# EAGLE library part CCDN2,5/18-G1P26THR (library Connectors)
CCDN 2,5/18-G1 P26 THR - PCB header Link <https://www.phoenixcontact.com/en-pc/products/printed-circuit-board-connector-ccdn-25-18-g1-p26-thr-1734436>
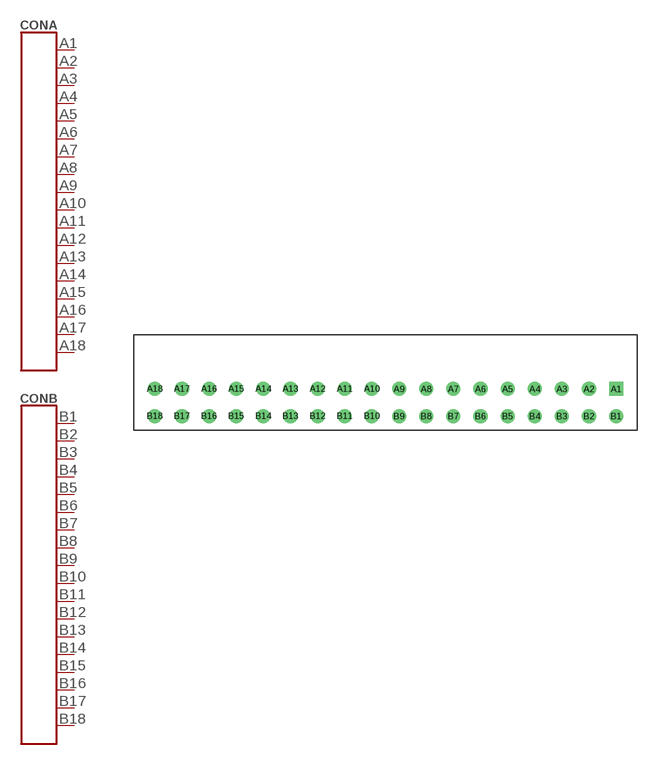
[diagram p36: symbol with the pads of CCDN2.5_18-G1P26THR; footprint CCDN2.5_18-G1P26THR]

Designator prefix CON; gates A=CON-18P B=CON-18P

## CCDN2,5/18-G1P26THR (ALT: WJ2EDGRHB-THR-5.0-2*18Р (36pitch); MANF: Phoenix contact; MANF#: CCDN 2,5/18-G1 P26 THR)  [CCDN2.5_18-G1P26THR]
A1  A:1
A2  A:2
A3  A:3
A4  A:4
A5  A:5
A6  A:6
A7  A:7
A8  A:8
A9  A:9
A10  A:10
A11  A:11
A12  A:12
A13  A:13
A14  A:14
A15  A:15
A16  A:16
A17  A:17
A18  A:18
B1  B:1
B2  B:2
B3  B:3
B4  B:4
B5  B:5
B6  B:6
B7  B:7
B8  B:8
B9  B:9
B10  B:10
B11  B:11
B12  B:12
B13  B:13
B14  B:14
B15  B:15
B16  B:16
B17  B:17
B18  B:18

## Footprint CCDN2.5_18-G1P26THR (pad centres in mm)
3D model <https://www.phoenixcontact.com/ru-pc/produkty/razem-pecatnoi-platy-ccdn-25-18-g1-p26-thr-1734436>
drill 1.7 pad 2.6 square: A1 42.5,0
drill 1.7 pad 2.6: A2 37.5,0; A3 32.5,0; A4 27.5,0; A5 22.5,0; A6 17.5,0; A7 12.5,0; A8 7.5,0; A9 2.5,0; A10 -2.5,0; A11 -7.5,0; A12 -12.5,0; A13 -17.5,0; A14 -22.5,0; A15 -27.5,0; A16 -32.5,0; A17 -37.5,0; A18 -42.5,0; B1 42.5,-5; B2 37.5,-5; B3 32.5,-5; B4 27.5,-5; B5 22.5,-5; B6 17.5,-5; B7 12.5,-5; B8 7.5,-5; B9 2.5,-5; B10 -2.5,-5; B11 -7.5,-5; B12 -12.5,-5; B13 -17.5,-5; B14 -22.5,-5; B15 -27.5,-5; B16 -32.5,-5; B17 -37.5,-5; B18 -42.5,-5